# Altium footprint library PCB - LEADED - SOP - ANALOG MSOP-16EP.PcbLib: 1 footprints
Each footprint in its own frame and in the unit in brackets; x right, y up, seen from the top. Pads: shape width x height; smd on the part's side, far side on the other; paste and mask are expansions set on the pad; w line width, h text height; cw(c..) or ccw(c..) is an arc to the next point about the centre after c.
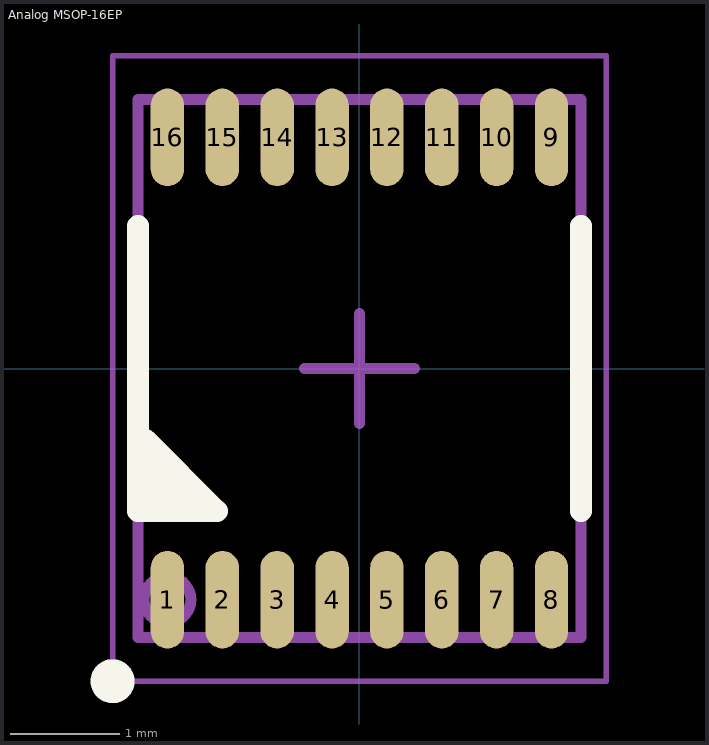
[diagram p0: the footprint, top view; thin cyan lines are the x and y axes]

## Analog MSOP-16EP [mm] "MSOP-16EP Package, 0.5mm Pitch, 4.03x3.00mm Body"
height 1.1
pads (16):
  oval 0.305x0.889 smd: 1(-1.75,-2.107) 2(-1.25,-2.107) 3(-0.75,-2.107) 4(-0.25,-2.107) 5(0.25,-2.107) 6(0.75,-2.107) 7(1.25,-2.107) 8(1.75,-2.107) 9(1.75,2.107) 10(1.25,2.107) 11(0.75,2.107) 12(0.25,2.107) 13(-0.25,2.107) 14(-0.75,2.107) 15(-1.25,2.107) 16(-1.75,2.107)
Top Overlay:
  circle w0.2: c-2.25,-2.85 r0.1
  region: -2.02,-0.65 -1.3,-1.3 -2.02,-1.3
  lines w0.2: -2.02,1.3 -2.02,0 -2.02,-1.3 -1.3,-1.3 -1.95,-0.65 ; 2.019,-1.3 2.019,0 2.019,1.3
Mechanical 13:
  circle w0.1: c-1.75,-2.107 r0.213
  lines w0.1: -2.02,-2.45 -2.02,2.45 2.019,2.45 2.019,-2.45 -2.02,-2.45
Mechanical 15:
  lines w0.05: -2.25,-2.85 2.25,-2.85 2.25,2.85 -2.25,2.85 -2.25,-2.85
Mechanical 2 (Mech9):
  lines w0.1: -0.5,0 0,0 ; 0,-0.5 0,0 ; 0,0.5 0,0 ; 0.5,0 0,0
3D body "Analog Devices - MSOP-16 v2.step": height 1.1, standoff 0, extent -2.02,-2.45 2.019,2.45